# Altium footprint library L7905C.PcbLib: 1 footprints
Each footprint in its own frame and in the unit in brackets; x right, y up, seen from the top. Pads: shape width x height; smd on the part's side, far side on the other; paste and mask are expansions set on the pad; w line width, h text height; cw(c..) or ccw(c..) is an arc to the next point about the centre after c.
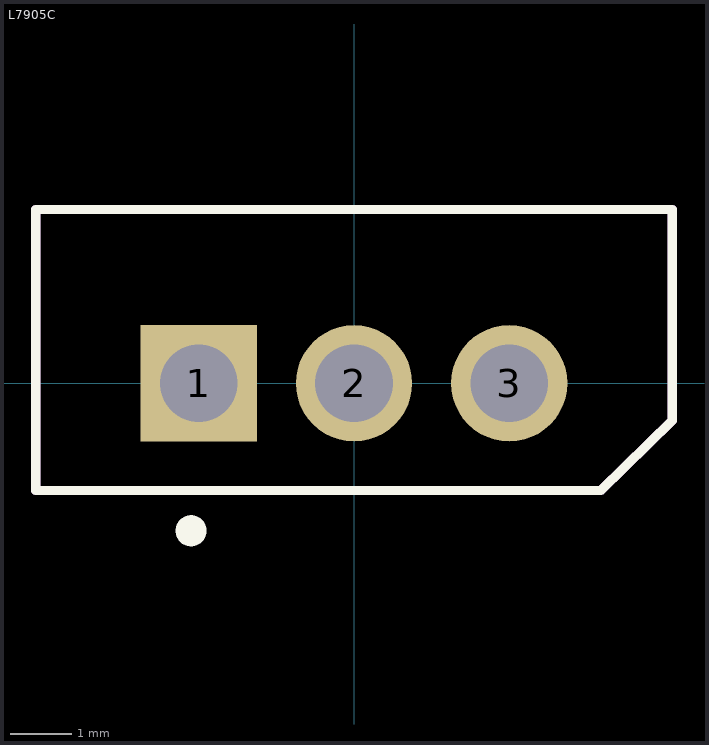
[diagram p0: the footprint, top view; thin cyan lines are the x and y axes]

## L7905C [mil]
pads (3):
  rect 75x75 hole 50: 1(-100,0)
  round 75 hole 50: 2(0,0) 3(100,0)
Top Overlay:
  circle w10: c-105,-95 r5
  lines w6: -205,-69 159,-69 205,-24 205,112 -205,112 -205,-69
Mechanical 13:
  lines w6: -205,-69 -205,112 205,112 205,-24 159,-69 -205,-69
3D body "L7905CV.STEP": height 775, standoff -407, extent -196.25,-69.24 196.25,105.76